# EAGLE library part MCP6002 (library custom)
Op-Amp Dual Rail-to-Rail 1MHz
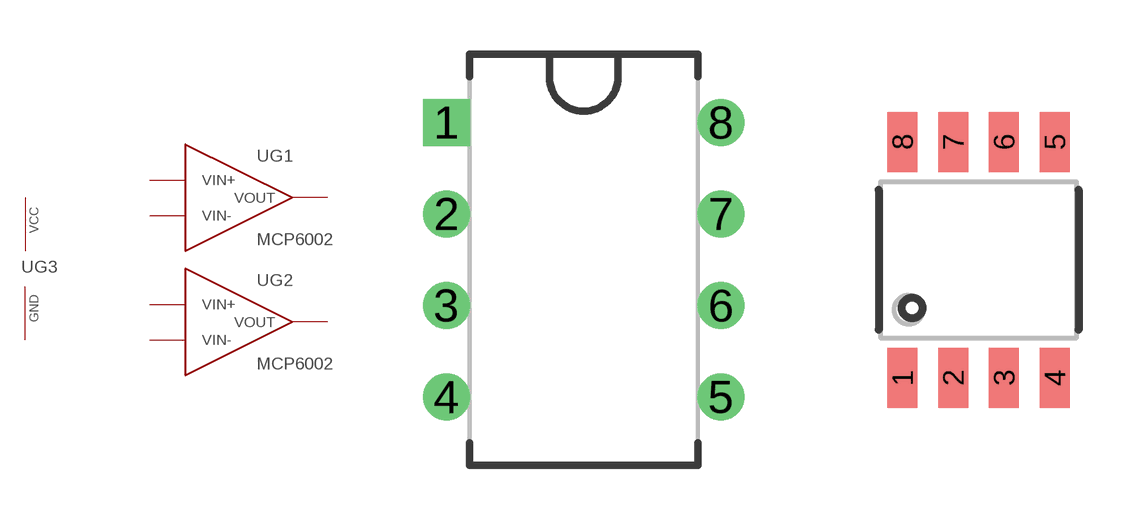
[diagram p39: symbol with the pads of 8-PDIP; footprints 8-PDIP, 8-SOIC]

Designator prefix U; gates G1=OP-AMP G2=OP-AMP G3=PWRN

## MCP6002DIP  [8-PDIP]
1  G1:VOUT
2  G1:VIN-
3  G1:VIN+
4  G3:GND  pwr
5  G2:VIN+
6  G2:VIN-
7  G2:VOUT
8  G3:VCC  pwr

## MCP6002SOIC  [8-SOIC]
Pads as for 8-PDIP

## Footprint 8-PDIP (pad centres in mm)
drill 0.8 square: 1 -3.81,3.81
drill 0.8: 2 -3.81,1.27; 3 -3.81,-1.27; 4 -3.81,-3.81; 5 3.81,-3.81; 6 3.81,-1.27; 7 3.81,1.27; 8 3.81,3.81

## Footprint 8-SOIC (pad centres in mm)
smd 0.75 x 1.5: 1 -1.905,-2.95; 2 -0.635,-2.95; 3 0.635,-2.95; 4 1.905,-2.95; 5 1.905,2.95; 6 0.635,2.95; 7 -0.635,2.95; 8 -1.905,2.95